# Altium footprint library Demo_pcb_lib.PcbLib: 10 footprints
Each footprint in its own frame and in the unit in brackets; x right, y up, seen from the top. Pads: shape width x height; smd on the part's side, far side on the other; paste and mask are expansions set on the pad; w line width, h text height; cw(c..) or ccw(c..) is an arc to the next point about the centre after c.
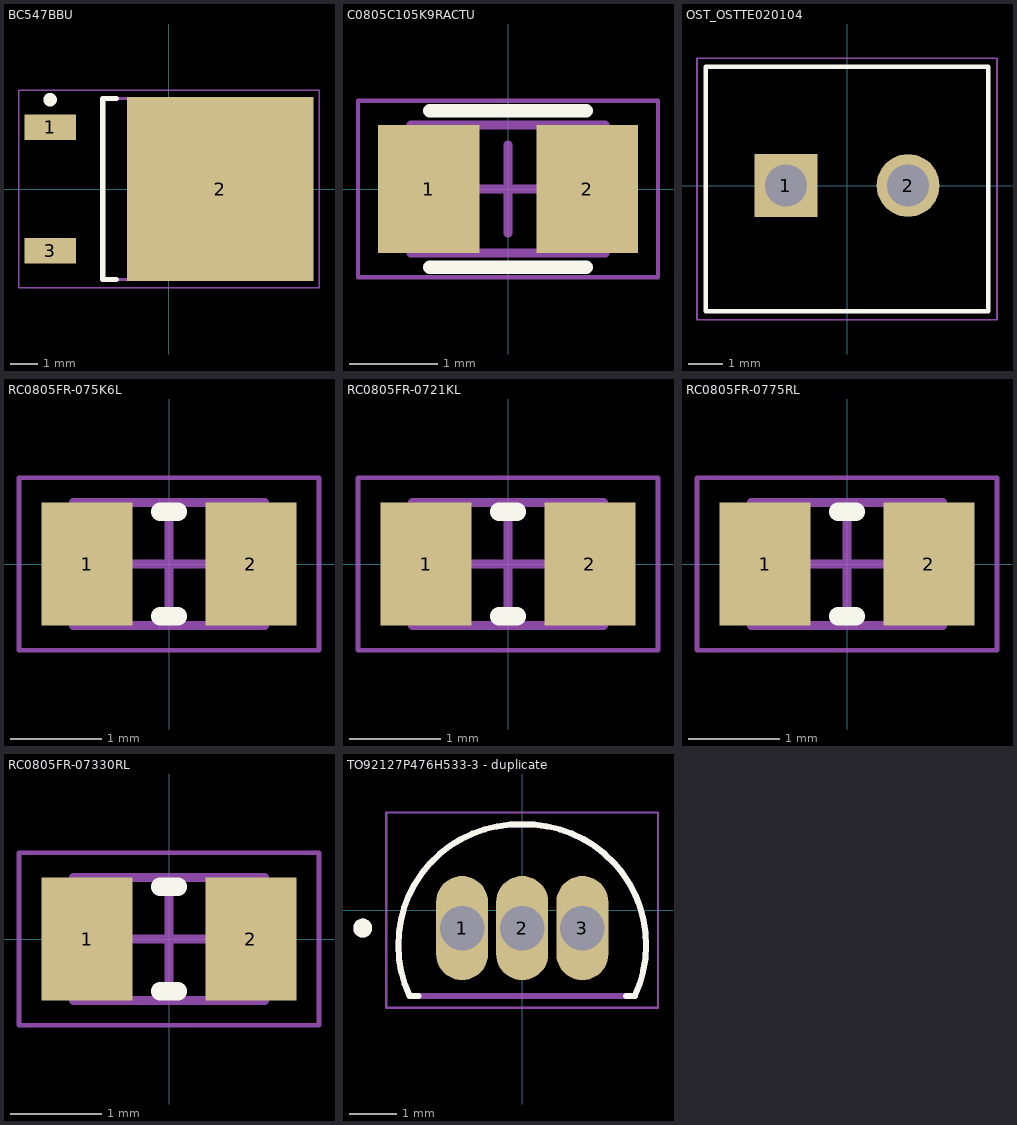
[diagram p0: the footprints below, top view; thin cyan lines are the x and y axes]

## BC547BBU [mm]
height 2.38
pads (3):
  rect 1.9x0.95 smd: 1(-4.4,2.28) 3(-4.4,-2.28)
  rect 6.9x6.8 smd: 2(1.9,0)
Top Overlay:
  circle w0.25: c-4.4,3.305 r0.125
  lines w0.2: -1.95,-3.35 -2.45,-3.35 -2.45,3.35 -1.95,3.35
Mechanical 14:
  lines w0.1: -2.45,-3.35 3.75,-3.35 3.75,3.35 -2.45,3.35 -2.45,-3.35
Mechanical 15:
  lines w0.05: -5.55,-3.65 5.55,-3.65 5.55,3.65 -5.55,3.65 -5.55,-3.65
  lines w0.1: -0.5,0 0.5,0 ; 0,-0.5 0,0.5
3D body "BC547BBU.step": height 2.38, standoff 0, extent -4.415,-3.35 5.285,3.35

## C0805C105K9RACTU [mm]
height 1.45
pads (2):
  rect 1.15x1.45 smd: 1(-0.9,0) 2(0.9,0)
Top Overlay:
  lines w0.154: -0.889,-0.889 0.889,-0.889 ; -0.889,0.889 0.889,0.889
Mechanical 14:
  lines w0.1: -1.1,-0.725 -1.1,0.725 1.1,0.725 1.1,-0.725 -1.1,-0.725
Mechanical 15:
  lines w0.05: -1.7,-1 -1.7,1 1.7,1 1.7,-1 -1.7,-1
  lines w0.1: -0.5,0 0.5,0 ; 0,-0.5 0,0.5
3D body "C0805C105K9RACTU.step": height 1.45, standoff 0, extent -1.1,-0.725 1.1,0.725

## OST_OSTTE020104 [mm]
pads (2):
  rect 1.8x1.8 / inner round 1.8 / far side rect 1.8x1.8 hole 1.2: 1(-1.75,0)
  round 1.8 hole 1.2: 2(1.75,0)
Top Overlay:
  lines w0.127: -4.05,-3.6 -4.05,3.4 4.05,3.4 4.05,-3.6 -4.05,-3.6
Mechanical 15:
  lines w0.05: -4.3,-3.85 -4.3,3.65 4.3,3.65 4.3,-3.85 -4.3,-3.85
3D body "step_temp.STEP": height 8.4, standoff -3.8, extent -4,-3.5 4,3.5

## OSTTE020104 [mm]

## PCBComponent_1 [mm]

## RC0805FR-075K6L [mm]
height 0.6
pads (2):
  rect 1x1.35 smd: 1(-0.9,0) 2(0.9,0)
Top Overlay:
  lines w0.2: -0.1,-0.575 0.1,-0.575 ; -0.1,0.575 0.1,0.575
Mechanical 14:
  lines w0.1: -1.05,-0.675 1.05,-0.675 1.05,0.675 -1.05,0.675 -1.05,-0.675
Mechanical 15:
  lines w0.05: -1.65,-0.95 1.65,-0.95 1.65,0.95 -1.65,0.95 -1.65,-0.95
  lines w0.1: -0.5,0 0.5,0 ; 0,-0.5 0,0.5
3D body "RC0805FR-075K6L.step": height 0.6, standoff 0, extent -1.05,-0.675 1.05,0.675

## RC0805FR-0721KL [mm]
height 0.6
pads (2):
  rect 1x1.35 smd: 1(-0.9,0) 2(0.9,0)
Top Overlay:
  lines w0.2: -0.1,-0.575 0.1,-0.575 ; -0.1,0.575 0.1,0.575
Mechanical 13:
  lines w0.1: -1.05,-0.675 1.05,-0.675 1.05,0.675 -1.05,0.675 -1.05,-0.675
Mechanical 15:
  lines w0.05: -1.65,-0.95 1.65,-0.95 1.65,0.95 -1.65,0.95 -1.65,-0.95
  lines w0.1: -0.5,0 0.5,0 ; 0,-0.5 0,0.5
3D body "RC0805FR-0721KL.step": height 0.6, standoff 0, extent -1.05,-0.675 1.05,0.675

## RC0805FR-0775RL [mm]
height 0.6
pads (2):
  rect 1x1.35 smd: 1(-0.9,0) 2(0.9,0)
Top Overlay:
  lines w0.2: -0.1,-0.575 0.1,-0.575 ; -0.1,0.575 0.1,0.575
Mechanical 14:
  lines w0.1: -1.05,-0.675 1.05,-0.675 1.05,0.675 -1.05,0.675 -1.05,-0.675
Mechanical 15:
  lines w0.05: -1.65,-0.95 1.65,-0.95 1.65,0.95 -1.65,0.95 -1.65,-0.95
  lines w0.1: -0.5,0 0.5,0 ; 0,-0.5 0,0.5
3D body "RC0805FR-0775RL.step": height 0.6, standoff 0, extent -1.05,-0.675 1.05,0.675

## RC0805FR-07330RL [mm]
height 0.6
pads (2):
  rect 1x1.35 smd: 1(-0.9,0) 2(0.9,0)
Top Overlay:
  lines w0.2: -0.1,-0.575 0.1,-0.575 ; -0.1,0.575 0.1,0.575
Mechanical 14:
  lines w0.1: -1.05,-0.675 -1.05,0.675 1.05,0.675 1.05,-0.675 -1.05,-0.675
Mechanical 15:
  lines w0.05: -1.65,-0.95 -1.65,0.95 1.65,0.95 1.65,-0.95 -1.65,-0.95
  lines w0.1: -0.5,0 0.5,0 ; 0,-0.5 0,0.5
3D body "RC0805FR-07330RL.step": height 0.6, standoff 0, extent -1.05,-0.675 1.05,0.675

## TO92127P476H533-3 - duplicate [mm]
pads (3):
  oval 1.1x2.2 hole 0.94: 1(-1.27,-0.38) 2(0,-0.38) 3(1.27,-0.38)
Top Overlay:
  circle w0.2: c-3.368,-0.38 r0.1
  lines w0.127: -2.38,-1.81 -2.19,-1.81 ; -2.379,-1.812 cw(c-0.071,-0.735) 0.018,1.809 ; -0.018,1.809 cw(c0.071,-0.735) 2.379,-1.812 ; 2.19,-1.81 2.38,-1.81
Mechanical 13:
  circle w0.2: c-3.368,-0.38 r0.1
  lines w0.127: -2.38,-1.81 2.38,-1.81 ; -2.379,-1.812 cw(c-0.071,-0.735) 0.018,1.809 ; -0.018,1.809 cw(c0.071,-0.735) 2.379,-1.812
Mechanical 15:
  lines w0.05: -2.868,-2.06 -2.868,2.061 2.868,2.061 2.868,-2.06 -2.868,-2.06
3D body "step_temp.STEP": height 5.33, standoff -15.62, extent -2.38,-1.81 2.38,1.81